# Altium footprint library R0603_0.55MM_MD_4.PcbLib: 1 footprints
Each footprint in its own frame and in the unit in brackets; x right, y up, seen from the top. Pads: shape width x height; smd on the part's side, far side on the other; paste and mask are expansions set on the pad; w line width, h text height; cw(c..) or ccw(c..) is an arc to the next point about the centre after c.
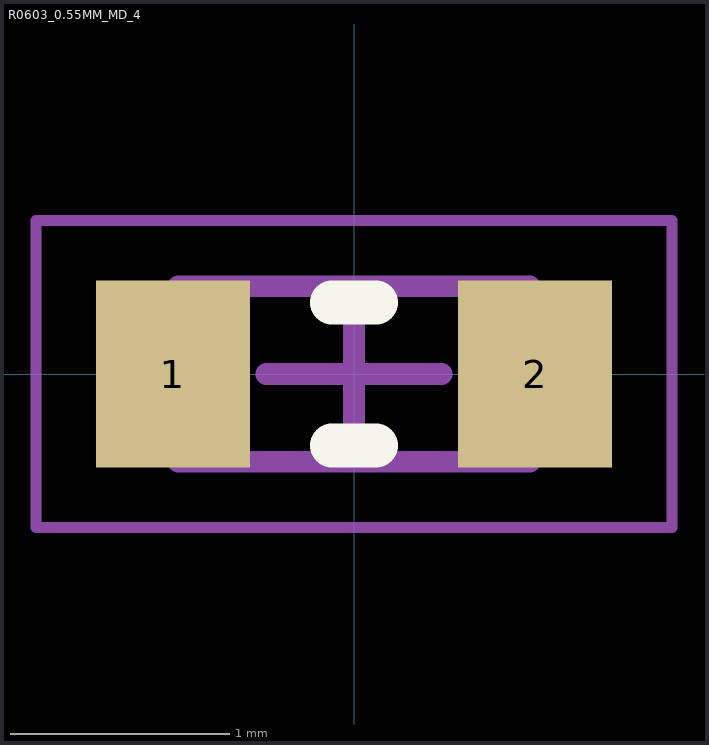
[diagram p0: the footprint, top view; thin cyan lines are the x and y axes]

## R0603_0.55MM_MD_4 [mm]
pads (2):
  rect 0.7x0.85 smd: 1(-0.825,0) 2(0.825,0)
Top Overlay:
  lines w0.2: -0.1,-0.325 0.1,-0.325 ; -0.1,0.325 0.1,0.325
Mechanical 13:
  lines w0.1: -0.8,-0.4 -0.8,0.4 0.8,0.4 0.8,-0.4 -0.8,-0.4
Mechanical 15:
  lines w0.05: -1.45,-0.7 -1.45,0.7 1.45,0.7 1.45,-0.7 -1.45,-0.7
  lines w0.1: -0.4,0 0.4,0 ; 0,-0.4 0,0.4
3D body "RESC1608X06N.step": height 0.55, standoff 0, extent -0.8,-0.4 0.8,0.4